# Altium schematic symbol library SN74AHCT1G125.Schlib: 1 symbol
Pins are listed as number, name and electrical type; pins without a type are passive.

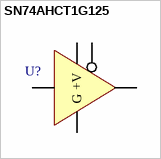
[diagram p0: symbol SN74AHCT1G125]

## SN74AHCT1G125
designator U?  (value not drawn)
Single Bus Buffer Gate 3-State Output
pins: 1 ~{OE}, 2 A, 3 G, 4 Y, 5 +V